# Altium schematic symbol library SY10EP11UKG.SchLib: 2 symbols
Pins are listed as number, name and electrical type; pins without a type are passive.

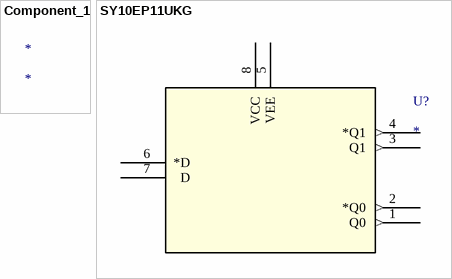
[diagram p0: symbols Component_1 to SY10EP11UKG]

## Component_1
designator *

## SY10EP11UKG
designator U?
No Description Available; Mfr_Name: Microchip; RefDes: RefDes; Type: Type
footprint MSOP-8_K8-1_MCL
footprint MSOP-8_K8-1_MCL
pins: 1 Q0 (out), 2 *Q0 (out), 3 Q1 (out), 4 *Q1 (out), 5 VEE (power), 6 *D, 7   D, 8 VCC (power)